# EAGLE library part CON-ISP (library CaliBeta-Conectores)
conector ips 6 pines para programar microcontroladores Atmel
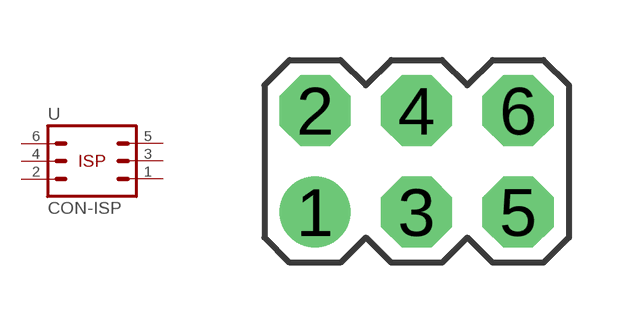
[diagram p2: symbol with the pads of HEADER-M2X3; footprint HEADER-M2X3]

Designator prefix -

## CON-ISP  [HEADER-M2X3]
1  1  pas
2  2  pas
3  3  pas
4  4  pas
5  5  pas
6  6  pas

## Footprint HEADER-M2X3 (pad centres in mm)
drill 1 pad 1.778: 1 -2.54,-1.27
drill 1 pad 1.778 octagon: 2 -2.54,1.27; 3 0,-1.27; 4 0,1.27; 5 2.54,-1.27; 6 2.54,1.27